# Altium schematic symbol library 28Pins_Project_V1I1.SchLib: 39 symbols
Pins are listed as number, name and electrical type; pins without a type are passive.

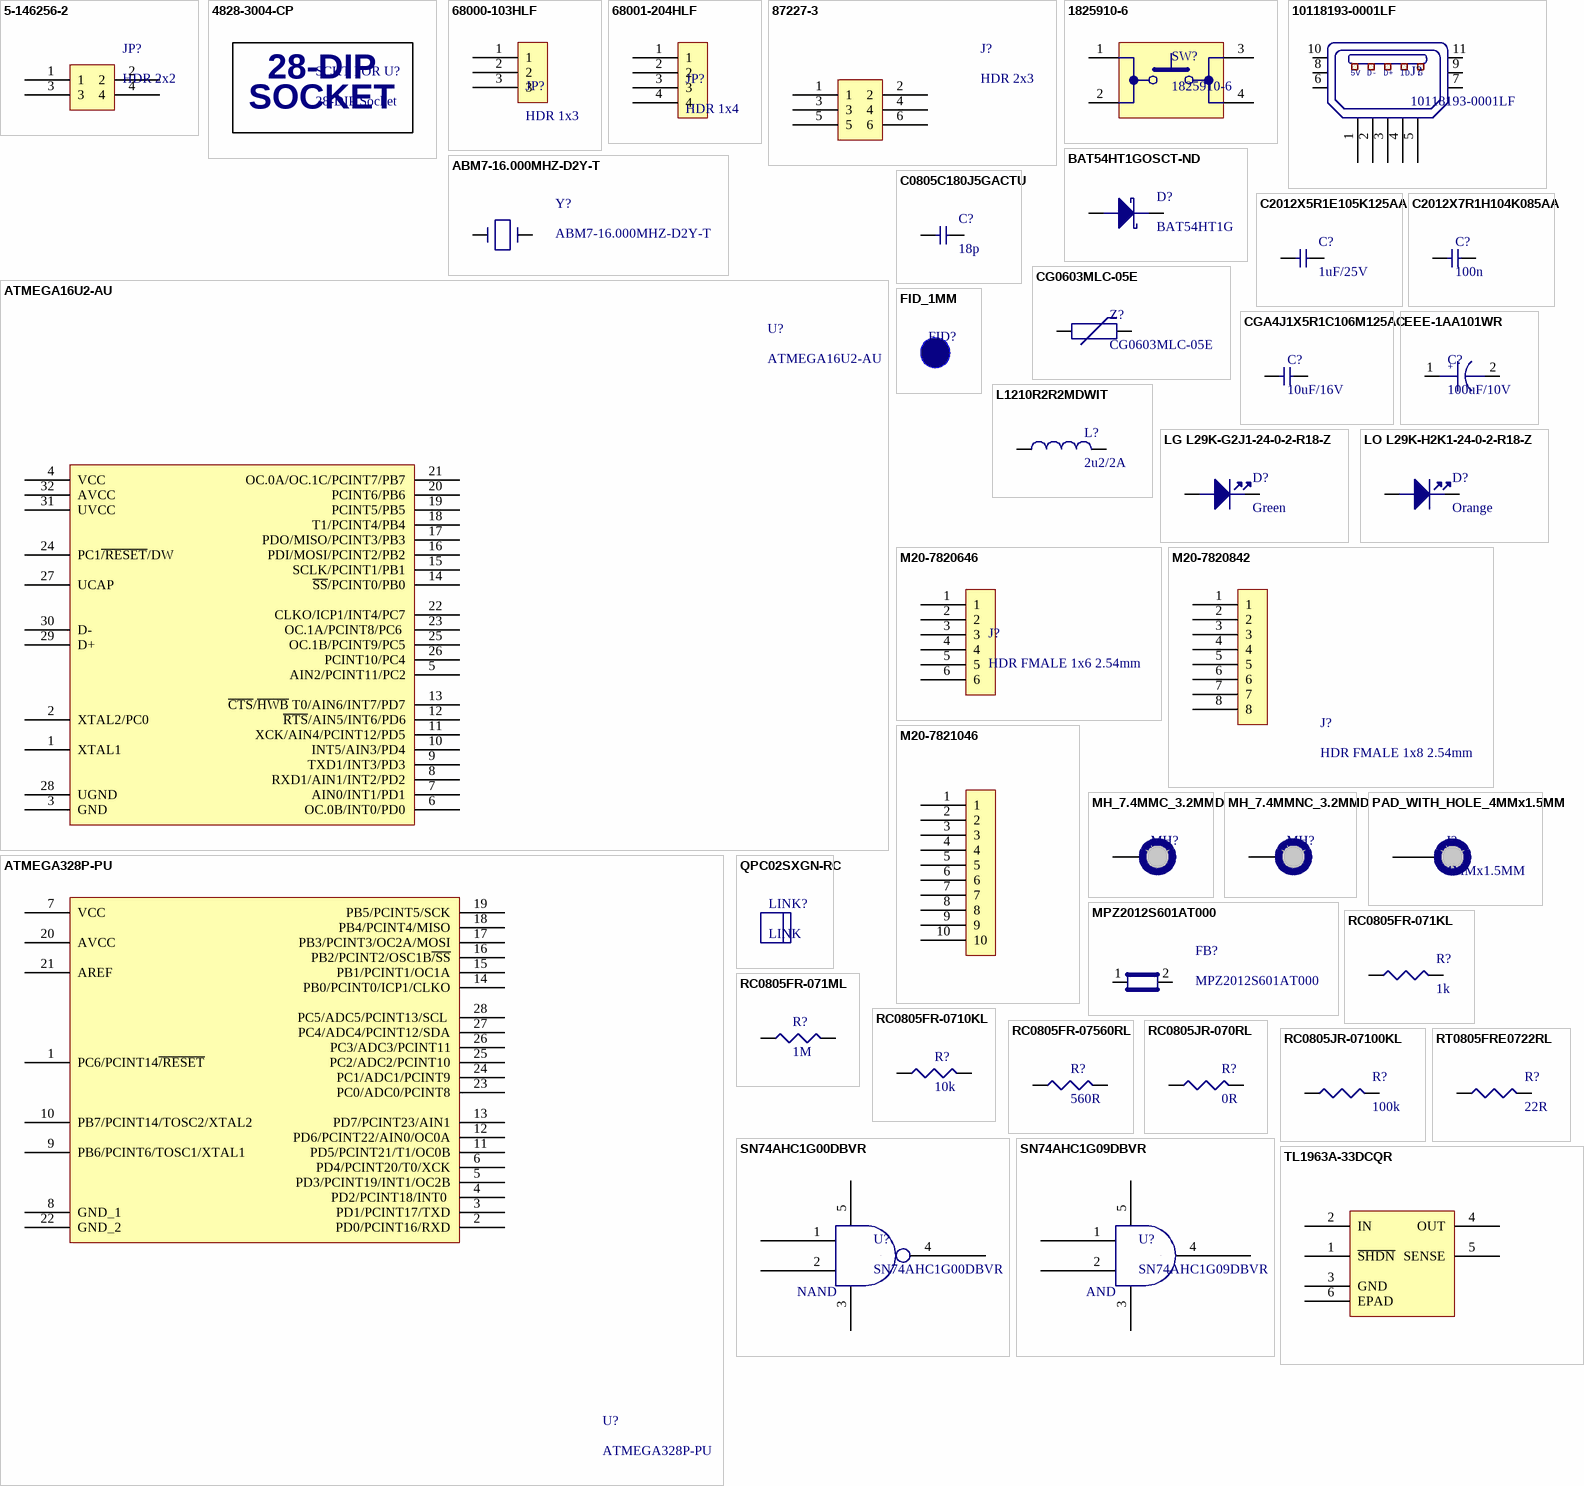
[diagram p0: symbols 5-146256-2 to TL1963A-33DCQR]

## 5-146256-2
designator JP?, comment HDR 2x2
CONN HEADER VERT 4POS 2.54MM
footprint HDR_2x2_2.54mm
pins: 1, 2, 3, 4

## 4828-3004-CP
designator SCKT FOR U?, comment 28-DIP Socket
CONN IC DIP SOCKET 28POS TIN
footprint 28-DIP_7.62mm_SOCKET
text: 28-DIP; SOCKET

## 68000-103HLF
designator JP?, comment HDR 1x3
CONN HEADER VERT 3POS 2.54MM
footprint HDR_1x3_2.54mm
pins: 1, 2, 3

## 68001-204HLF
designator JP?, comment HDR 1x4
CONN HEADER VERT 4POS 2.54MM
footprint HDR_1x4_2.54mm
pins: 1, 2, 3, 4

## 87227-3
designator J?, comment HDR 2x3
CONN HEADER VERT 6POS 2.54MM
footprint HDR_2x3_2.54MM
pins: 1, 2, 3, 4, 5, 6

## 1825910-6
designator SW?
SWITCH TACTILE SPST-NO 0.05A 24V
footprint 1825910-6
pins: 1, 2, 3, 4

## 10118193-0001LF
designator J?
CONN RCPT USB2.0 MICRO B SMD R/A
footprint 10118193
pins: 1, 2, 3, 4, 5, 6, 7, 8, 9, 10, 11
text: 5V; D-; D+; ID; G

## ABM7-16.000MHZ-D2Y-T
designator Y?
CRYSTAL 16.0000MHZ 18PF SMD
footprint ABM7_v1_1_BIG
pins: 1, 2

## ATMEGA16U2-AU
designator U?
IC MCU 8BIT 16KB FLASH 32TQFP
footprint TQFP32
pins: 1 XTAL1, 2 XTAL2/PC0, 3 GND, 4 VCC, 5 AIN2/PCINT11/PC2, 6 OC.0B/INT0/PD0, 7 AIN0/INT1/PD1, 8 RXD1/AIN1/INT2/PD2, 9 TXD1/INT3/PD3, 10 INT5/AIN3/PD4, 11 XCK/AIN4/PCINT12/PD5, 12 ~{RTS}/AIN5/INT6/PD6, 13 ~{CTS}/~{HWB} T0/AIN6/INT7/PD7, 14 ~{SS}/PCINT0/PB0, 15 SCLK/PCINT1/PB1, 16 PDI/MOSI/PCINT2/PB2, 17 PDO/MISO/PCINT3/PB3, 18 T1/PCINT4/PB4, 19 PCINT5/PB5, 20 PCINT6/PB6, 21 OC.0A/OC.1C/PCINT7/PB7, 22 CLKO/ICP1/INT4/PC7, 23 OC.1A/PCINT8/PC6 , 24 PC1~{/RESET}/DW, 25 OC.1B/PCINT9/PC5, 26 PCINT10/PC4, 27 UCAP, 28 UGND, 29 D+, 30 D-, 31 UVCC, 32 AVCC

## ATMEGA328P-PU
designator U?
IC MCU 8BIT 32KB FLASH 28DIP
footprint 28_DIP_7.62mm
pins: 1 PC6/PCINT14~{/RESET}, 2 PD0/PCINT16/RXD, 3 PD1/PCINT17/TXD, 4 PD2/PCINT18/INT0 , 5 PD3/PCINT19/INT1/OC2B, 6 PD4/PCINT20/T0/XCK, 7 VCC, 8 GND_1, 9 PB6/PCINT6/TOSC1/XTAL1, 10 PB7/PCINT14/TOSC2/XTAL2, 11 PD5/PCINT21/T1/OC0B, 12  PD6/PCINT22/AIN0/OC0A, 13 PD7/PCINT23/AIN1, 14 PB0/PCINT0/ICP1/CLKO, 15 PB1/PCINT1/OC1A, 16 PB2/PCINT2/OSC1B~{/SS}, 17 PB3/PCINT3/OC2A/MOSI, 18 PB4/PCINT4/MISO, 19 PB5/PCINT5/SCK, 20 AVCC, 21 AREF, 22 GND_2, 23 PC0/ADC0/PCINT8, 24 PC1/ADC1/PCINT9, 25 PC2/ADC2/PCINT10, 26 PC3/ADC3/PCINT11, 27 PC4/ADC4/PCINT12/SDA, 28 PC5/ADC5/PCINT13/SCL 

## BAT54HT1GOSCT-ND
designator D?, comment BAT54HT1G
DIODE SCHOTTKY 30V 200MA SOD323
footprint SOD323
pins: 1 Cathode, 2 Anode

## C0805C180J5GACTU
designator C?, comment 18p
CAP CER 18PF 50V NP0 0805
footprint C0805
pins: 1, 2

## C2012X5R1E105K125AA
designator C?, comment 1uF/25V
CAP CER 1UF 25V X5R 0805
footprint C0805
pins: 1, 2

## C2012X7R1H104K085AA
designator C?, comment 100n
CAP CER 0.1UF 50V X7R 0805
footprint C0805
pins: 1, 2

## CG0603MLC-05E
designator Z?
VARISTOR 0603
footprint R0603
pins: 1, 2

## CGA4J1X5R1C106M125AC
designator C?, comment 10uF/16V
CAP CER 10UF 16V X5R 0805
footprint C0805
pins: 1, 2

## EEE-1AA101WR
designator C?, comment 100uF/10V
CAP ALUM 100UF 20% 10V SMD
footprint C_ALU_C_SIZE
pins: 1, 2
text: +

## FID_1MM
designator FID?  (value not drawn)  (no BOM)
Fiducial 40mil Diameter, 120mil Mask
footprint FID_40x120D

## L1210R2R2MDWIT
designator L?, comment 2u2/2A
FIXED IND 2.2UH 2A 80 MOHM SMD
footprint C1210_IND
pins: 1, 2

## LG L29K-G2J1-24-0-2-R18-Z
designator D?, comment Green
LED GREEN DIFFUSED 0603 SMD
footprint LED_0603
pins: 1 Cathode, 2 Anode

## LO L29K-H2K1-24-0-2-R18-Z
designator D?, comment Orange
LED ORANGE DIFFUSED 0603 SMD
footprint LED_0603
pins: 1 Cathode, 2 Anode

## M20-7820646
designator J?, comment HDR FMALE 1x6 2.54mm
6-WAY SIL VERT SOCKET L/FREE
footprint HDR_Female_1x6_2.54mm
pins: 1, 2, 3, 4, 5, 6

## M20-7820842
designator J?, comment HDR FMALE 1x8 2.54mm
8-WAY SIL VERT SOCKET L/FREE
footprint HDR_Female_1x8_2.54mm - duplicate
pins: 1, 2, 3, 4, 5, 6, 7, 8

## M20-7821046
designator J?, comment HDR FMALE 1x10 2.54mm
10-WAY SIL VERT SOCKET L/FREE
footprint HDR_Female_1x10_2.54mm
pins: 1, 2, 3, 4, 5, 6, 7, 8, 9, 10

## MH_7.4MMC_3.2MMD
designator MH?  (value not drawn)  (no BOM)
Mounting Hole 7.4mm Diameter, 3.2mm Drill
footprint MH_7.4MMD_3.2MMD
pins: 1

## MH_7.4MMNC_3.2MMD
designator MH?  (value not drawn)  (no BOM)
Hole 7.4mm Diameter (NON COPPER), 3.2mm Drill NPTH
footprint MH_7.4MMD_3.2MMD_NON_COPPER_NPTH
pins: 1

## MPZ2012S601AT000
designator FB?
FERRITE CHIP BEAD 600 OHM SMD
footprint C0805
pins: 1, 2

## PAD_WITH_HOLE_4MMx1.5MM
designator J?, comment 4MMx1.5MM  (no BOM)
Pad with a hole 4mmx1.5mm
footprint PAD_WITH_HOLE_4MMx1.5MM
pins: 1

## QPC02SXGN-RC
designator LINK?, comment LINK  (mechanical)
CONN JUMPER SHORTING .100" GOLD

## RC0805FR-071KL
designator R?, comment 1k
RES 1K OHM 1% 1/8W 0805
footprint R0805
pins: 1, 2

## RC0805FR-071ML
designator R?, comment 1M
RES SMD 1M OHM 1% 1/8W 0805
footprint R0805
pins: 1, 2

## RC0805FR-0710KL
designator R?, comment 10k
RES 10K OHM 1% 1/8W 0805
footprint R0805
pins: 1, 2

## RC0805FR-07560RL
designator R?, comment 560R
RES 560 OHM 1% 1/8W 0805
footprint R0805
pins: 1, 2

## RC0805JR-070RL
designator R?, comment 0R
RES 0 OHM JUMPER 1/8W 0805
footprint R0805
pins: 1, 2

## RC0805JR-07100KL
designator R?, comment 100k
RES 100K OHM 5% 1/8W 0805
footprint R0805
pins: 1, 2

## RT0805FRE0722RL
designator R?, comment 22R
RES SMD 22 OHM 1% 1/8W 0805
footprint R0805
pins: 1, 2

## SN74AHC1G00DBVR
designator U?
IC GATE NAND 1CH 2-INP SOT23-5
footprint DBV_DOT_23_5
pins: 1, 2, 3, 4, 5
text: NAND

## SN74AHC1G09DBVR
designator U?
IC GATE AND 1CH 2-INP SOT23-5
footprint DBV_DOT_23_5
pins: 1, 2, 3, 4, 5
text: AND

## TL1963A-33DCQR
designator U?
IC REG LIN 3.3V 1.5A SOT-223-6
footprint DCQ(R-PDSO-G6)
pins: 1 ~{SHDN}, 2 IN, 3 GND, 4 OUT, 5 SENSE, 6 EPAD